# EAGLE library part IDC-10 (library other)
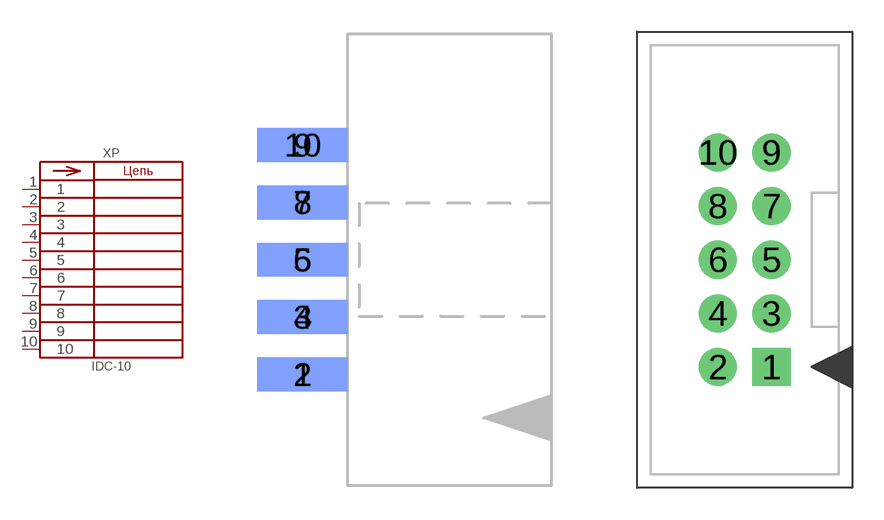
[diagram p6: symbol with the pads of IDC-10; footprints IDC-10, IDC-10V]

Designator prefix XP

## IDC-10  [IDC-10]
1  1  pas
2  2  pas
3  3  pas
4  4  pas
5  5  pas
6  6  pas
7  7  pas
8  8  pas
9  9  pas
10  10  pas

## IDC-10V  [IDC-10V]
Pads as for IDC-10

## Footprint IDC-10 (pad centres in mm)
smd 4 x 1.5: 1 -5,-5.08; 3 -5,-2.54; 5 -5,0; 7 -5,2.54; 9 -5,5.08
smd 4 x 1.5 bottom: 2 -5,-5.08; 4 -5,-2.54; 6 -5,0; 8 -5,2.54; 10 -5,5.08

## Footprint IDC-10V (pad centres in mm)
drill 0.8 pad 1.8 square: 1 1.27,-5.08
drill 0.8 pad 1.8: 2 -1.27,-5.08; 3 1.27,-2.54; 4 -1.27,-2.54; 5 1.27,0; 6 -1.27,0; 7 1.27,2.54; 8 -1.27,2.54; 9 1.27,5.08; 10 -1.27,5.08